# Altium footprint library QFN50P350X350X80-21N-D.PcbLib: 1 footprints
Each footprint in its own frame and in the unit in brackets; x right, y up, seen from the top. Pads: shape width x height; smd on the part's side, far side on the other; paste and mask are expansions set on the pad; w line width, h text height; cw(c..) or ccw(c..) is an arc to the next point about the centre after c.
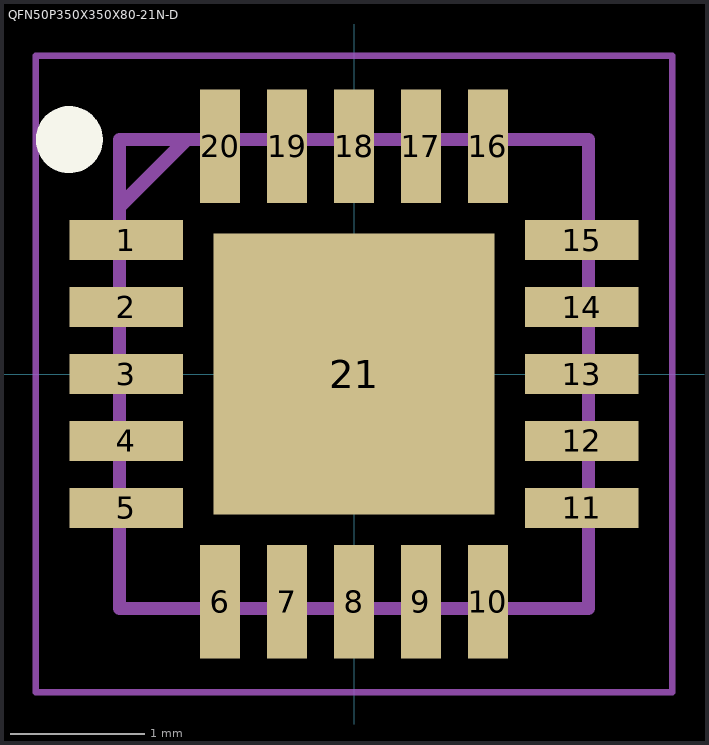
[diagram p0: the footprint, top view; thin cyan lines are the x and y axes]

## QFN50P350X350X80-21N-D [mm]
pads (21):
  rect 0.85x0.3 smd: 1(-1.7,1) 2(-1.7,0.5) 3(-1.7,0) 4(-1.7,-0.5) 5(-1.7,-1) 11(1.7,-1) 12(1.7,-0.5) 13(1.7,0) 14(1.7,0.5) 15(1.7,1)
  rect 0.3x0.85 smd: 6(-1,-1.7) 7(-0.5,-1.7) 8(0,-1.7) 9(0.5,-1.7) 10(1,-1.7) 16(1,1.7) 17(0.5,1.7) 18(0,1.7) 19(-0.5,1.7) 20(-1,1.7)
  rect 2.1x2.1 smd: 21(0,0)
Top Overlay:
  circle w0.25: c-2.125,1.75 r0.125
Mechanical 15:
  lines w0.1: -1.75,1.25 -1.25,1.75 ; -1.75,-1.75 1.75,-1.75 1.75,1.75 -1.75,1.75 -1.75,-1.75
Mechanical 20:
  lines w0.05: -2.375,-2.375 2.375,-2.375 2.375,2.375 -2.375,2.375 -2.375,-2.375